# Altium schematic symbol library OptoElectronics.SchLib: 2 symbols
Pins are listed as number, name and electrical type; pins without a type are passive.

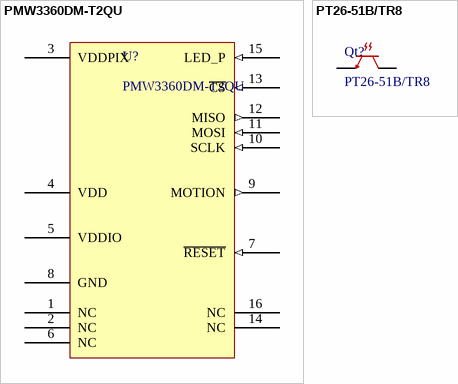
[diagram p0: symbols PMW3360DM-T2QU to PT26-51B/TR8]

## PMW3360DM-T2QU
designator U?
Optical Gaming Navigation Sensor; PNP-Nzl: 4; PNP-dx: 0; PNP-X: 4.9; PNP-Y: 3.9; PNP-W: 0.1; PNP-Thk: 1.45; PNP-Lv: 26; PNP-TS: 70; PNP-Level: 1.3; PNP-Type: QFP; PNP-FeedType: Tape; PNP-TapeWidth: 12; PNP-PlacePriority: 3; PNP-TapeIndex: 2; PNP-dy: 0; PNP-A: 0; PNP-Pt: 0; PNP-Voff: 0; PNP-da: 0
footprint PMW3360DM-T2QU
pins: 1 NC, 2 NC, 3 VDDPIX (power), 4 VDD (power), 5 VDDIO (power), 6 NC, 7 ~{RESET} (in), 8 GND (power), 9 MOTION (out), 10 SCLK (in), 11 MOSI (in), 12 MISO (out), 13 ~{CS} (in), 14 NC, 15 LED_P (in), 16 NC

## PT26-51B/TR8
designator Qt?
Phototransistor 940nm Side View 1206 (3216 Metric); PNP-Nzl: 2; PNP-dx: 0; PNP-X: 2.00; PNP-Y: 1.25; PNP-Thk: 0.9; PNP-Lv: 26; PNP-TS: 70; PNP-Level: 1; PNP-Type: CAP; PNP-FeedType: Tape; PNP-TapeWidth: 8; PNP-dy: 0; PNP-Pt: 0; PNP-W: 0; PNP-Voff: 0; PNP-PlacePriority: 1; PNP-A: 0; PNP-TapeIndex: 1; PNP-da: 0; Supplier 1: Digi-Key; Supplier 2: Arrow; Supplier 3: Mouser; Supplier Part Number 1: 1080-1387-1-ND; Supplier Part Number 2: PT26-51B/TR8; Supplier Part Number 3: 638-PT2651BTR8
footprint PT26-51B/TR8
pins: C (oc), E (oe)